# EAGLE library part DF17-80M (library Lysenko_Eagle_Lib)
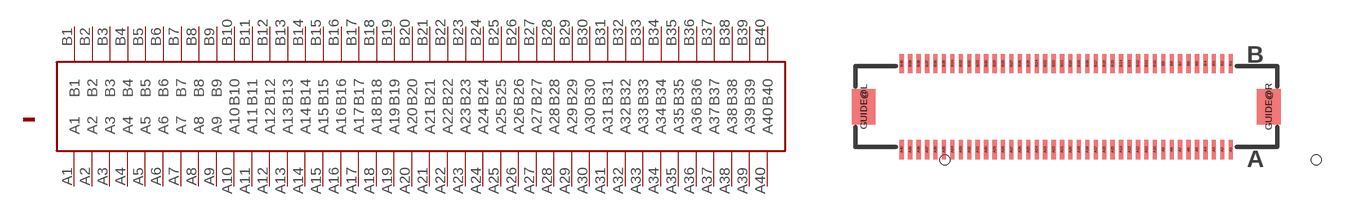
[diagram p2: symbol with the pads of DF17-80M; footprint DF17-80M]

Designator prefix -

## DF17-80M  [DF17-80M]
A1  A1
A2  A2
A3  A3
A4  A4
A5  A5
A6  A6
A7  A7
A8  A8
A9  A9
A10  A10
A11  A11
A12  A12
A13  A13
A14  A14
A15  A15
A16  A16
A17  A17
A18  A18
A19  A19
A20  A20
A21  A21
A22  A22
A23  A23
A24  A24
A25  A25
A26  A26
A27  A27
A28  A28
A29  A29
A30  A30
A31  A31
A32  A32
A33  A33
A34  A34
A35  A35
A36  A36
A37  A37
A38  A38
A39  A39
A40  A40
B1  B1
B2  B2
B3  B3
B4  B4
B5  B5
B6  B6
B7  B7
B8  B8
B9  B9
B10  B10
B11  B11
B12  B12
B13  B13
B14  B14
B15  B15
B16  B16
B17  B17
B18  B18
B19  B19
B20  B20
B21  B21
B22  B22
B23  B23
B24  B24
B25  B25
B26  B26
B27  B27
B28  B28
B29  B29
B30  B30
B31  B31
B32  B32
B33  B33
B34  B34
B35  B35
B36  B36
B37  B37
B38  B38
B39  B39
B40  B40

## Footprint DF17-80M (pad centres in mm)
smd 0.25 x 1.15: A1 8.48,-2.553; A2 7.98,-2.553; A3 7.48,-2.553; A4 6.98,-2.553; A5 6.48,-2.553; A6 5.98,-2.553; A7 5.48,-2.553; A8 4.98,-2.553; A9 4.48,-2.553; A10 3.98,-2.553; A11 3.48,-2.553; A12 2.98,-2.553; A13 2.48,-2.553; A14 1.98,-2.553; A15 1.48,-2.553; A16 0.98,-2.553; A17 0.48,-2.553; A18 -0.02,-2.553; A19 -0.52,-2.553; A20 -1.02,-2.553; A21 -1.52,-2.553; A22 -2.02,-2.553; A23 -2.52,-2.553; A24 -3.02,-2.553; A25 -3.52,-2.553; A26 -4.02,-2.553; A27 -4.52,-2.553; A28 -5.02,-2.553; A29 -5.52,-2.553; A30 -6.02,-2.553; A31 -6.52,-2.553; A32 -7.02,-2.553; A33 -7.52,-2.553; A34 -8.02,-2.553; A35 -8.52,-2.553; A36 -9.02,-2.553; A37 -9.52,-2.553; A38 -10.02,-2.553; A39 -10.52,-2.553; A40 -11.02,-2.553; B1 8.48,2.553; B2 7.98,2.553; B3 7.48,2.553; B4 6.98,2.553; B5 6.48,2.553; B6 5.98,2.553; B7 5.48,2.553; B8 4.98,2.553; B9 4.48,2.553; B10 3.98,2.553; B11 3.48,2.553; B12 2.98,2.553; B13 2.48,2.553; B14 1.98,2.553; B15 1.48,2.553; B16 0.98,2.553; B17 0.48,2.553; B18 -0.02,2.553; B19 -0.52,2.553; B20 -1.02,2.553; B21 -1.52,2.553; B22 -2.02,2.553; B23 -2.52,2.553; B24 -3.02,2.553; B25 -3.52,2.553; B26 -4.02,2.553; B27 -4.52,2.553; B28 -5.02,2.553; B29 -5.52,2.553; B30 -6.02,2.553; B31 -6.52,2.553; B32 -7.02,2.553; B33 -7.52,2.553; B34 -8.02,2.553; B35 -8.52,2.553; B36 -9.02,2.553; B37 -9.52,2.553; B38 -10.02,2.553; B39 -10.52,2.553; B40 -11.02,2.553
smd 1.4 x 2.1: GUIDE@L -13.27,0; GUIDE@R 10.73,0
hole 0.6 at 13.54,-3.17
hole 0.6 at -8.46,-3.17